# Altium schematic symbol library LD6806TD_25H.Schlib: 1 symbol
Pins are listed as number, name and electrical type; pins without a type are passive.

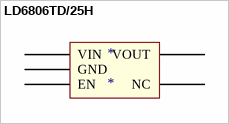
[diagram p0: symbol LD6806TD/25H]

## LD6806TD/25H
designator *
IC LDO 2V5 200mA
pins: 1 VIN, 2 GND, 3 EN, 4 NC, 5 VOUT